# Altium schematic symbol library SCH - CONNECTORS - TE 9-966140-5.Schlib: 1 symbol
Pins are listed as number, name and electrical type; pins without a type are passive.

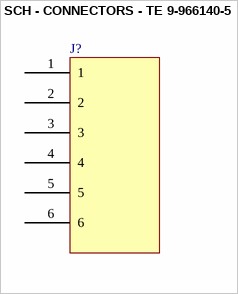
[diagram p0: symbol SCH - CONNECTORS - TE 9-966140-5]

## SCH - CONNECTORS - TE 9-966140-5
designator J?
footprint ENG_CD_966140_F3
pins: 1, 2, 3, 4, 5, 6